# EAGLE library part DMN3009LFVW (library DMN3009LFVW)
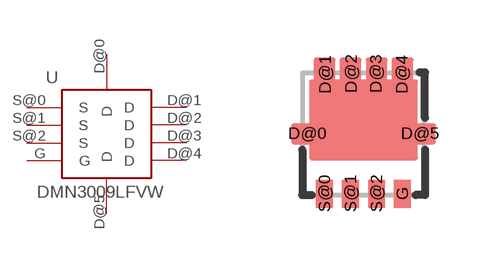
[diagram p0: symbol with the pads of SOT23-5; footprint SOT23-5]

Designator prefix -

## DMN3009LFVW7  [SOT23-5]
D@0  D
D@1  D
D@2  D
D@3  D
D@4  D
D@5  D
G  G
S@0  S
S@1  S
S@2  S

## Footprint SOT23-5 (pad centres in mm)
smd 0.7 x 0.42: D@0 -1.41,0.01; D@5 1.41,0.01
smd 0.42 x 0.7: D@1 -0.96,1.48; D@2 -0.31,1.5; D@3 0.31,1.5; D@4 0.96,1.48; G 0.975,-1.5; S@0 -0.975,-1.5; S@1 -0.325,-1.5; S@2 0.325,-1.5